# Altium integrated library Big_Library_Transistor_Array.IntLib: 3 symbols
Pins are listed as number, name and electrical type; pins without a type are passive.

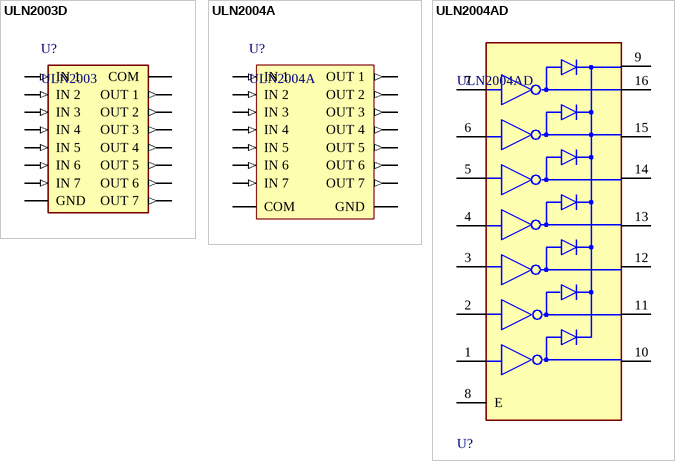
[diagram p0: symbols ULN2003D to ULN2004AD]

## ULN2003D
designator U?, comment ULN2003
STMicroelectronics Bipolar (BJT) Array Transistor, Darlington, NPN, 50 V, 500 mA, -20 to 85 degC, 16-Pin DIP, RoHS, Tube; DC Current Gain hFE: 1000hFE; SVHC: NoSVHC(17-Dec-2015); Collector Emitter Voltage V(br)ceo: 50V; No. of Pins: 16Pins; DC Collector Current: 500mA; Manufacturer URL: http://www.st.com/; Datasheet URL: https://datasheet.ciiva.com/29305/177989-da-01-en-uln-2001a-02a-03a-04a-29305677.pdf; Power Dissipation Pd: -; Automotive Qualification Standard: -; Manufacturer: STMicroelectronics; Operating Temperature Max: 85degC; Product Range: -; Transistor Case Style: DIP; Transistor Polarity: NPN; Datasheet Version: Jan-97; MSL: -; ComponentLink1Description: Link; ComponentLink1URL: https://ozdisan.com/integrated-circuits-ics/interfaces-and-peripherals-ics/transistor-arrays/ULN2003D1013TR/383349
footprint SOIC-16 PG-DSO-16-11 (SOIC, 16-Leads, Body 9.90x3.90mm, Pitch 1.27mm, IPC Medium Density)
pins: 1 IN 1 (in), 2 IN 2 (in), 3 IN 3 (in), 4 IN 4 (in), 5 IN 5 (in), 6 IN 6 (in), 7 IN 7 (in), 8 GND (power), 9 COM, 10 OUT 7 (out), 11 OUT 6 (out), 12 OUT 5 (out), 13 OUT 4 (out), 14 OUT 3 (out), 15 OUT 2 (out), 16 OUT 1 (out)

## ULN2004A
designator U?
STMicroelectronics Bipolar (BJT) Array Transistor, Darlington, NPN, 50 V, 500 mA, -20 to 85 degC, 16-Pin DIP, RoHS, Tube; DC Current Gain hFE: 1000hFE; SVHC: NoSVHC(17-Dec-2015); Collector Emitter Voltage V(br)ceo: 50V; No. of Pins: 16Pins; DC Collector Current: 500mA; Manufacturer URL: http://www.st.com/; Datasheet URL: https://datasheet.ciiva.com/29305/177989-da-01-en-uln-2001a-02a-03a-04a-29305677.pdf; Power Dissipation Pd: -; Automotive Qualification Standard: -; Manufacturer: STMicroelectronics; Operating Temperature Max: 85degC; Product Range: -; Transistor Case Style: DIP; Transistor Polarity: NPN; Datasheet Version: Jan-97; MSL: -
footprint DIP16
footprint DIP16L (DIP, 16-Leads, Body 20x7.1mm, Pitch 2.54mm)
footprint FP-D0016A-IPC_A
footprint FP-D0016A-IPC_B
footprint FP-D0016A-IPC_C
footprint FP-D0016A-MFG
footprint SOIC-16 PG-DSO-16-11 (SOIC, 16-Leads, Body 9.90x3.90mm, Pitch 1.27mm, IPC Medium Density)
footprint SOP16
footprint SOP16-IPC (SOP, 16-Leads, Body 10,45x5,30mm, Pitch 1,27mm, IPC Medium Density)
pins: 1 IN 1 (in), 2 IN 2 (in), 3 IN 3 (in), 4 IN 4 (in), 5 IN 5 (in), 6 IN 6 (in), 7 IN 7 (in), 8 GND (power), 9 COM, 10 OUT 7 (out), 11 OUT 6 (out), 12 OUT 5 (out), 13 OUT 4 (out), 14 OUT 3 (out), 15 OUT 2 (out), 16 OUT 1 (out)

## ULN2004AD
designator U?
IC PWR RELAY 7NPN 1:1 16SOIC; Manufacturer: Texas Instruments; Min Supply Voltage: 0V; Max Junction Temp: +125°C; Max Supply Voltage: 50V; Number Of Outputs: 7; Propagation Delay: 0.25us; Standoff Height: 0.1mm; Nominal Supply Current: 0.35-1mA; Output Current: 500mA; Ambient Temperature Range Low: -40°C; Ambient Temperature Range High: +70°C; Category: IC; Temperature Range High: +70°C; Manufacturer Part Number: ULN2004AD; Temperature: -20°C to +70°C; Package: D0016A; Device Class L3: Gate Drivers; Temperature Range Low: -20°C; Lead Free: Yes; ComponentLink2Description: Datasheet; Device Class L1: Integrated Circuits (ICs); Number Of Drivers: 7; Output Voltage: 50V; Automotive: No; Height: 1.75mm; Device Class L2: Power Management ICs; Octopart: https://octopart.com/uln2004ad-texas+instruments-55433463; Digikey Description: IC PWR RELAY 7NPN 1:1 16SOIC; ComponentLink2URL: http://www.ti.com/lit/ds/symlink/uln2004a.pdf; RoHS: TRUE; Mouser Description: Darlington Transistors Hi V & A Darlington
footprint DIP16
footprint DIP16L (DIP, 16-Leads, Body 20x7.1mm, Pitch 2.54mm)
footprint FP-D0016A-IPC_A
footprint FP-D0016A-IPC_B
footprint FP-D0016A-IPC_C
footprint FP-D0016A-MFG
footprint SOIC-16 PG-DSO-16-11 (SOIC, 16-Leads, Body 9.90x3.90mm, Pitch 1.27mm, IPC Medium Density)
footprint SOP16
footprint SOP16-IPC (SOP, 16-Leads, Body 10,45x5,30mm, Pitch 1,27mm, IPC Medium Density)
pins: 1 1B, 2 2B, 3 3B, 4 4B, 5 5B, 6 6B, 7 7B, 8 E, 9 COM, 10 7C, 11 6C, 12 5C, 13 4C, 14 3C, 15 2C, 16 1C